# Altium footprint library OMD.PcbLib: 62 footprints (part 1 of 4)
Each footprint in its own frame and in the unit in brackets; x right, y up, seen from the top. Pads: shape width x height; smd on the part's side, far side on the other; paste and mask are expansions set on the pad; w line width, h text height; cw(c..) or ccw(c..) is an arc to the next point about the centre after c.
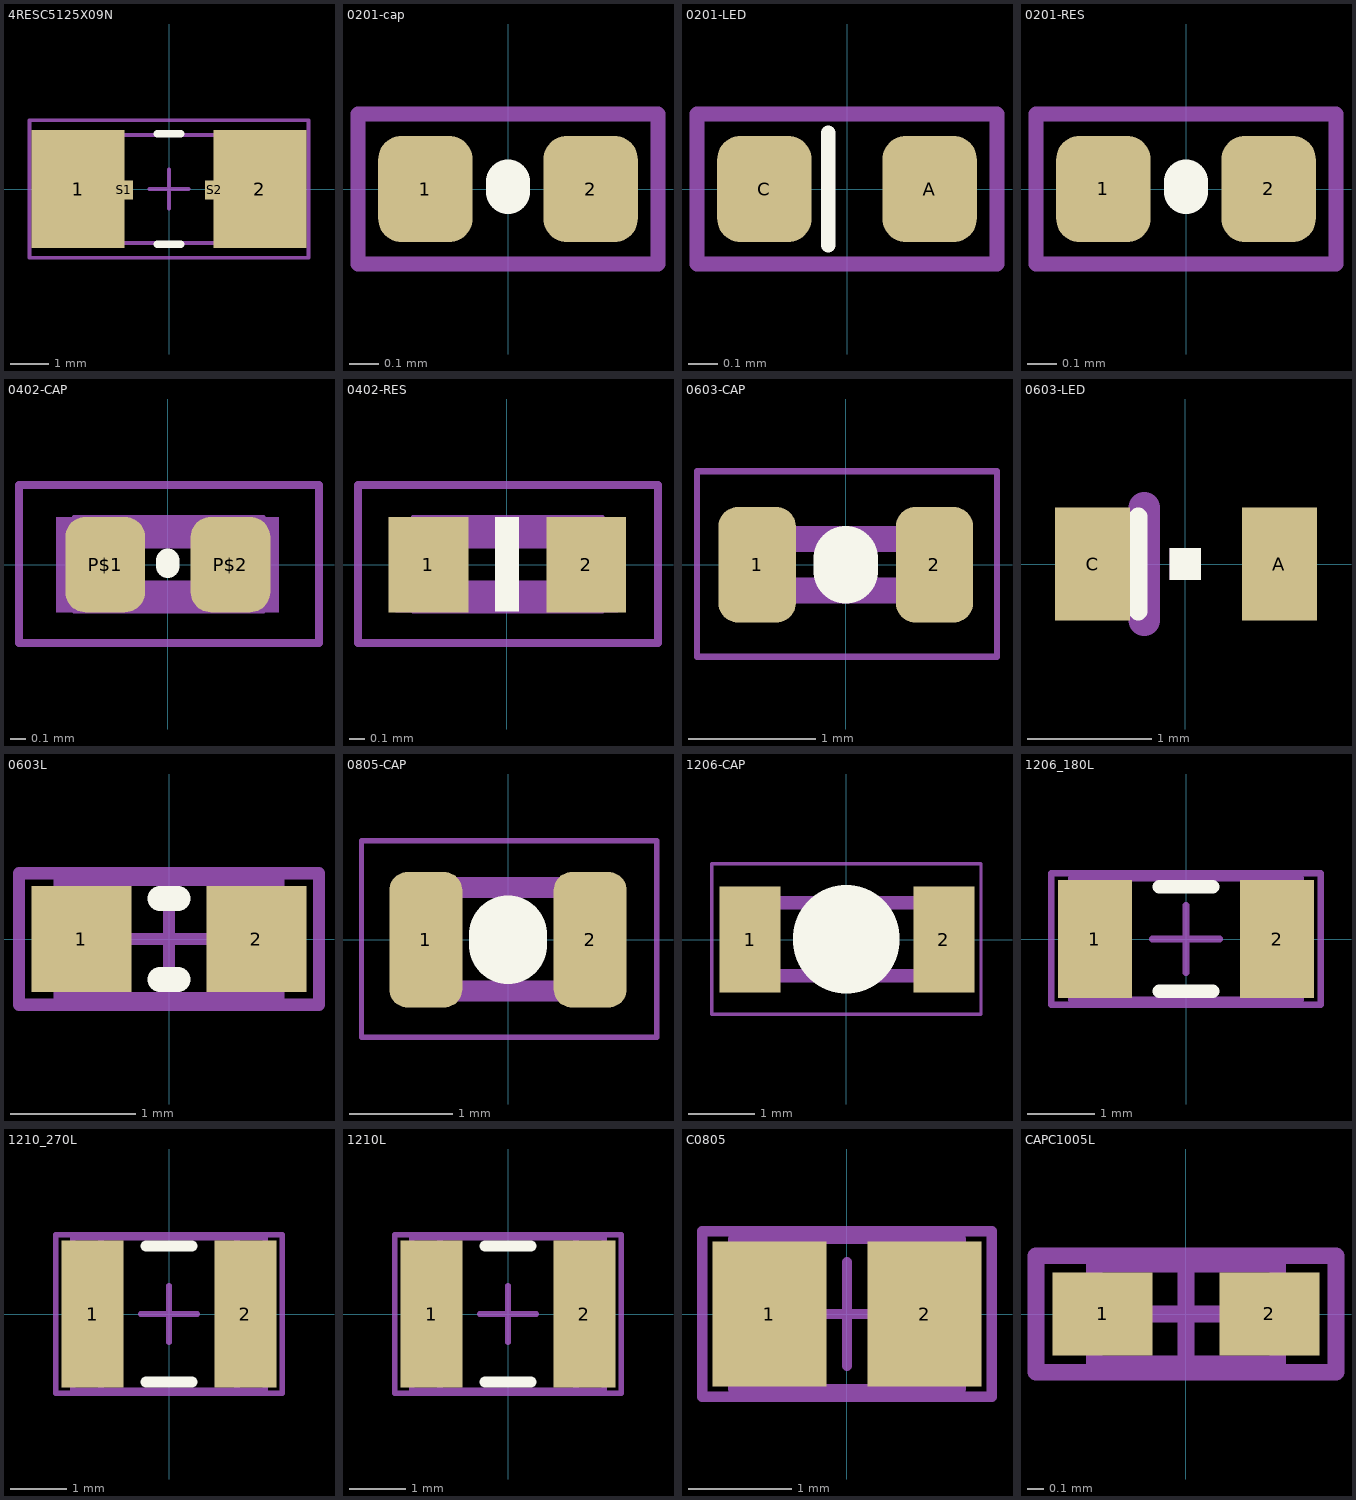
[diagram p0: the footprints below, top view; thin cyan lines are the x and y axes]

## 4RESC5125X09N [mm] "Chip Resistor, 2-Leads + Kelvin terminals, Body 5.1x2.5mm, IPC Medium Density"
height 0.889
pads (4):
  rect 2.4x3.05 smd: 1(-2.35,0) 2(2.35,0)
  rect 0.5x0.5 smd: S1(-1.175,-0.025) S2(1.175,-0.025)
Top Overlay:
  lines w0.2: -0.3,-1.425 0.3,-1.425 ; -0.3,1.425 0.3,1.425
Mechanical 13:
  lines w0.1: -2.665,-1.395 -2.665,1.395 2.665,1.395 2.665,-1.395 -2.665,-1.395
Mechanical 15:
  lines w0.1: -0.5,0 0.5,0 ; 0,-0.5 0,0.5 ; -3.6,-1.775 -3.6,1.775 3.6,1.775 3.6,-1.775 -3.6,-1.775
3D body: height 0.89, standoff 0, extent -2.665,-1.395 2.665,1.395

## 0201-cap [mm]
pads (2):
  rrect50% 0.32x0.36 smd mask+0: 1(-0.28,0) 2(0.28,0)
Top Overlay:
  lines w0.15: 0,-0.01 0,0.025
Mechanical 16:
  lines w0.025: -0.508,-0.254 0.508,-0.254 0.508,0.254 -0.508,0.254 -0.508,-0.254
  lines w0.051: -0.508,-0.254 0.508,-0.254 0.508,0.254 -0.508,0.254 -0.508,-0.254
3D body "cap_0201.step": height 0.3, standoff 0, extent -0.3,-0.15 0.3,0.15

## 0201-LED [mm]
pads (2):
  rrect50% 0.32x0.36 smd mask+0: A(0.28,0) C(-0.28,0)
Top Overlay:
  lines w0.05: -0.064,-0.191 -0.064,0.191
Mechanical 16:
  lines w0.025: -0.508,-0.254 0.508,-0.254 0.508,0.254 -0.508,0.254 -0.508,-0.254
  lines w0.051: -0.508,-0.254 0.508,-0.254 0.508,0.254 -0.508,0.254 -0.508,-0.254
3D body "cap_0201.step": height 0.3, standoff 0, extent -0.3,-0.15 0.3,0.15

## 0201-RES [mm]
pads (2):
  rrect50% 0.32x0.36 smd mask+0: 1(-0.28,0) 2(0.28,0)
Top Overlay:
  lines w0.15: 0,-0.01 0,0.025
Mechanical 16:
  lines w0.025: -0.508,-0.254 0.508,-0.254 0.508,0.254 -0.508,0.254 -0.508,-0.254
  lines w0.051: -0.508,-0.254 0.508,-0.254 0.508,0.254 -0.508,0.254 -0.508,-0.254
3D body "res_0201.step": height 0.12, standoff -0.12, extent -0.3,-0.15 0.3,0.15

## 0402-CAP [mil]
pads (2):
  rrect50% 20x24 smd mask+0: P$1(-15.75,0) P$2(15.75,0)
Top Overlay:
  lines w6: 0,-0.39 0,1
Mechanical 16:
  rectangle: 15.93,-12 27.93,12
  rectangle: -28.07,-12 -16.07,12
  lines w1: -23.62,-11.81 -23.62,12 24,12 24,-11.81 -23.62,-11.81
  lines w2: -37.4,-19.68 -37.4,20 38,20 38,-19.68 -37.4,-19.68
  lines w8: -20,-8 20,-8 ; -20,8 20,8
3D body "cap_0402.STEP": height 19.68, standoff 0, extent -19.69,-9.84 19.69,9.84

## 0402-RES [mil] "0402-RES"
height 66.93
pads (2):
  rect 20x24 smd: 1(-19.68,0) 2(20,0)
Top Overlay:
  rectangle: -3,-11.8 3,12.01
Mechanical 16:
  rectangle: -28,-12 -16,12
  rectangle: 16,-11.99 28,12.01
  lines w1: -23.62,-11.81 24,-11.81 24,12 -23.62,12 -23.62,-11.81
  lines w2: -37.4,-19.68 38,-19.68 38,20 -37.4,20 -37.4,-19.68
  lines w8: -20,-8 20,-8 ; -20,8 20,8
3D body "res_0402.STEP": height 19.68, standoff 0, extent -19.69,-9.84 19.69,9.84

## 0603-CAP [mil] "0603-CAP"
pads (2):
  rrect50% 24x36 smd mask+0: 1(-27.56,0) 2(27.56,0)
Top Overlay:
  lines w20: 0,-2 0,2
Mechanical 16:
  rectangle: 16,-12 28,12
  rectangle: -28,-12 -16,12
  lines w2: -46.26,-28.54 -46.26,29 47,29 47,-28.54 -46.26,-28.54
  lines w8: -20,-8 20,-8 ; -20,8 20,8
3D body "cap_0603.STEP": height 34.25, standoff -0.39, extent -31.5,-15.95 31.5,15.94

## 0603-LED [mil]
pads (2):
  rect 24x36 smd: A(30,0) C(-29.53,0)
Top Overlay:
  region: -5,-5 5,-5 5,5 -5,5
  lines w5.91: -15,-15 -15,15
Mechanical 16:
  region: -5,-5 5,-5 5,5 -5,5
  lines w10: -13,-18 -13,18

## 0603L [mm] "0603 from SM-752 data"
height 1
pads (2):
  rect 0.8x0.85 smd: 1(-0.7,0) 2(0.7,0)
Top Overlay:
  lines w0.2: -0.071,-0.325 0.071,-0.325 ; -0.071,0.325 0.071,0.325
Mechanical 5:
  lines w0.1: -1.2,-0.525 -1.2,0.525 1.2,0.525 1.2,-0.525 -1.2,-0.525
Mechanical 13:
  lines w0.1: -0.55,-0.475 -0.55,0.475 ; 0.55,-0.475 0.55,0.475 ; -0.875,-0.475 -0.875,0.475 0.875,0.475 0.875,-0.475 -0.875,-0.475
Mechanical 15:
  lines w0.1: -0.475,0 0.475,0 ; 0,-0.475 0,0.475 ; -1.2,-0.525 1.2,-0.525 1.2,0.525 -1.2,0.525 -1.2,-0.525
3D body: height 1, standoff 0, extent 0.551,-0.474 0.874,0.474
3D body: height 1, standoff 0, extent -0.549,-0.474 0.549,0.474
3D body: height 1, standoff 0, extent -0.874,-0.474 -0.551,0.474

## 0805-CAP [mil]
pads (2):
  rrect50% 28x52 smd mask+0: 1(-31.5,0) 2(31.5,0)
Top Overlay:
  lines w30: 0,-2 0,2
Mechanical 16:
  rectangle: 24,-23.67 40,24
  rectangle: -39.37,-23.67 -23.62,24
  lines w2: -56.1,-37.4 -56.1,38 57,38 57,-37.4 -56.1,-37.4
  lines w8: -23.62,-19.68 24,-19.68 ; -23.62,20 24,20
3D body "cap_0805.STEP": height 30.79, standoff 0, extent -39.37,-24.6 39.37,24.6

## 1206-CAP [mil] "1206-CAP"
pads (2):
  rect 36x63 smd: 1(-57.09,0) 2(58,0)
Top Overlay:
  lines w63: 0,-0.39 0,1
Mechanical 16:
  rectangle: -68.87,-25.59 -45.24,26
  rectangle: 46.03,-25.59 69.03,26
  lines w2: -79.72,-44.29 80,-44.29 80,45 -79.72,45 -79.72,-44.29
  lines w8: -45.28,-21.59 46,-21.59 ; -45.28,22 46,22

## 1206_180L [mm] "1206_180"
height 1.8
pads (2):
  rect 1.1x1.75 smd: 1(-1.35,0) 2(1.35,0)
Top Overlay:
  lines w0.2: -0.4,-0.775 0.4,-0.775 ; -0.4,0.775 0.4,0.775
Mechanical 5:
  lines w0.1: -1.7,-0.9 -1.7,0.9 1.7,0.9 1.7,-0.9 -1.7,-0.9
Mechanical 15:
  lines w0.1: -0.5,0 0.5,0 ; 0,-0.5 0,0.5 ; -2,-0.975 -2,0.975 2,0.975 2,-0.975 -2,-0.975
3D body: height 1.8, standoff 0, extent 1.301,-0.949 1.75,0.95
3D body: height 1.8, standoff 0, extent -1.299,-0.949 1.3,0.95
3D body: height 1.8, standoff 0, extent -1.749,-0.949 -1.3,0.95

## 1210_270L [mm] "1210"
height 2.7
pads (2):
  rect 1.1x2.6 smd: 1(-1.35,0) 2(1.35,0)
Top Overlay:
  lines w0.2: -0.4,-1.2 0.4,-1.2 ; -0.4,1.2 0.4,1.2
Mechanical 5:
  lines w0.1: -1.7,-1.35 -1.7,1.35 1.7,1.35 1.7,-1.35 -1.7,-1.35
Mechanical 13:
  lines w0.1: -1.2,-1.35 -1.2,1.35 ; 1.2,-1.35 1.2,1.35 ; -1.7,-1.35 -1.7,1.35 1.7,1.35 1.7,-1.35 -1.7,-1.35
Mechanical 15:
  lines w0.1: -0.5,0 0.5,0 ; 0,-0.5 0,0.5 ; -2,-1.4 2,-1.4 2,1.4 -2,1.4 -2,-1.4
3D body: height 2.7, standoff 0, extent -1.699,-1.349 -1.201,1.349
3D body: height 2.7, standoff 0, extent -1.199,-1.349 1.199,1.349
3D body: height 2.7, standoff 0, extent 1.201,-1.349 1.699,1.349

## 1210L [mm] "1210 from SM-752 data"
height 1.35
pads (2):
  rect 1.1x2.6 smd: 1(-1.35,0) 2(1.35,0)
Top Overlay:
  lines w0.2: -0.4,-1.2 0.4,-1.2 ; -0.4,1.2 0.4,1.2
Mechanical 5:
  lines w0.1: -1.7,-1.35 1.7,-1.35 1.7,1.35 -1.7,1.35 -1.7,-1.35
Mechanical 13:
  lines w0.1: -1.2,-1.35 -1.2,1.35 ; 1.2,-1.35 1.2,1.35 ; -1.7,-1.35 1.7,-1.35 1.7,1.35 -1.7,1.35 -1.7,-1.35
Mechanical 15:
  lines w0.1: -0.5,0 0.5,0 ; 0,-0.5 0,0.5 ; -2,-1.4 -2,1.4 2,1.4 2,-1.4 -2,-1.4
3D body: height 1.35, standoff 0, extent 1.201,-1.349 1.699,1.349
3D body: height 1.35, standoff 0, extent -1.199,-1.349 1.199,1.349
3D body: height 1.35, standoff 0, extent -1.699,-1.349 -1.201,1.349

## C0805 [mm] "Chip Capacitor, Body 2.0x1.3mm, IPC High Density"
height 1.4
pads (2):
  rect 1.1x1.4 smd: 1(-0.75,0) 2(0.75,0)
Mechanical 13:
  lines w0.1: -1.1,-0.725 -1.1,0.725 1.1,0.725 1.1,-0.725 -1.1,-0.725
Mechanical 15:
  lines w0.1: -0.5,0 0.5,0 ; 0,-0.5 0,0.5 ; -1.4,-0.8 -1.4,0.8 1.4,0.8 1.4,-0.8 -1.4,-0.8
3D body: height 1.4, standoff 0, extent -1.1,-0.725 1.1,0.725

## CAPC1005L [mm] "Chip Capacitor, Body 1.0x0.5mm, IPC High Density"
height 0.6
pads (2):
  rect 0.6x0.5 smd: 1(-0.5,0) 2(0.5,0)
Mechanical 13:
  lines w0.1: -0.55,-0.3 0.55,-0.3 0.55,0.3 -0.55,0.3 -0.55,-0.3
Mechanical 15:
  lines w0.1: -0.3,0 0.3,0 ; 0,-0.3 0,0.3 ; -0.9,-0.35 0.9,-0.35 0.9,0.35 -0.9,0.35 -0.9,-0.35
3D body: height 0.6, standoff 0, extent -0.55,-0.3 0.55,0.3